# EAGLE library part ISL85415 (library FSAE Electric (Alexander Ray's conflicted copy 2016-04-02))
5V Buck Regulator IC 500mA 3V-36V View on DigiKey <http://www.digikey.com/product-detail/en/ISL85415FRZ-T7A/ISL85415FRZ-T7ACT-ND/4486023>
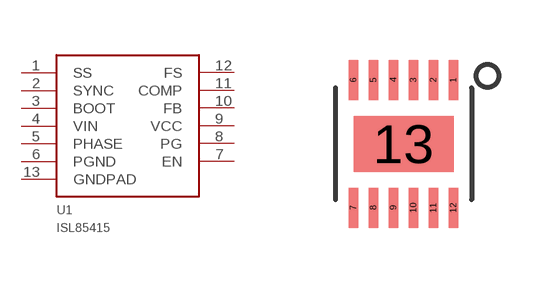
[diagram p76: symbol with the pads of DFN-12; footprint DFN-12]

Designator prefix U1

## ISL85415-FRZ-T7A (PARTNO: ISL85415FRZ-T7A)  [DFN-12]
1  SS
2  SYNC
3  BOOT
4  VIN
5  PHASE
6  PGND
7  EN
8  PG
9  VCC
10  FB
11  COMP
12  FS
13  GNDPAD

## Footprint DFN-12 (pad centres in mm)
smd 0.23 x 1: 1 1.25,1.6; 2 0.75,1.6; 3 0.25,1.6; 4 -0.25,1.6; 5 -0.75,1.6; 6 -1.25,1.6; 7 -1.25,-1.6; 8 -0.75,-1.6; 9 -0.25,-1.6; 10 0.25,-1.6; 11 0.75,-1.6; 12 1.25,-1.6
smd 2.5 x 1.4: 13 0,0